# Altium footprint library ecg-go.PcbLib: 21 footprints (part 2 of 2)
Each footprint in its own frame and in the unit in brackets; x right, y up, seen from the top. Pads: shape width x height; smd on the part's side, far side on the other; paste and mask are expansions set on the pad; w line width, h text height; cw(c..) or ccw(c..) is an arc to the next point about the centre after c.
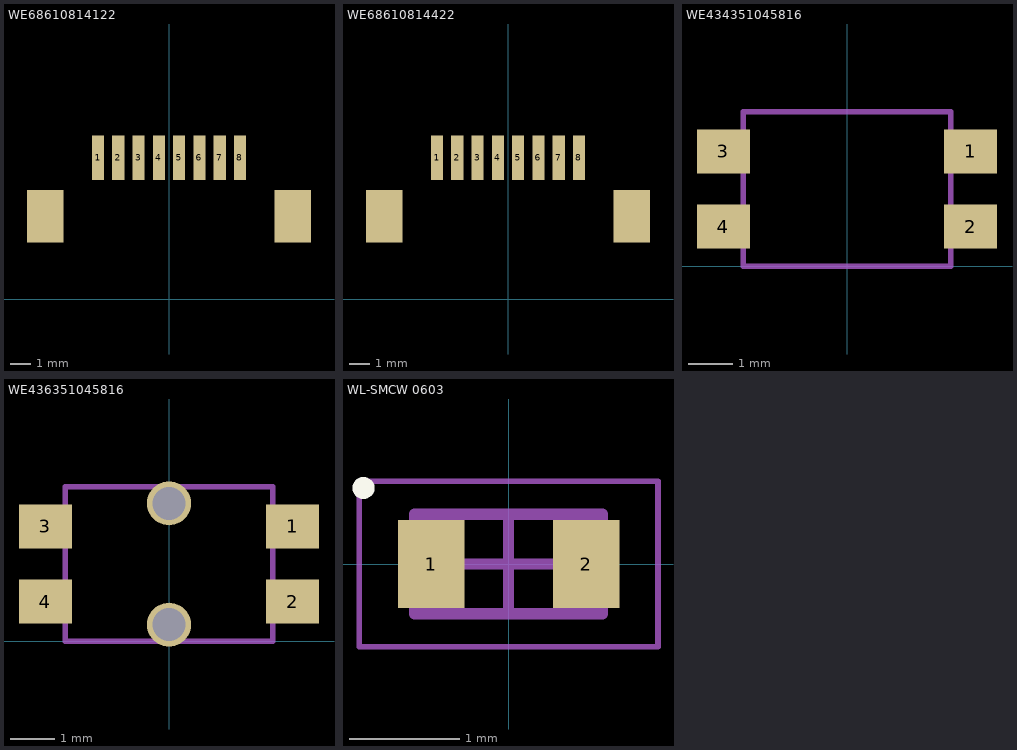
[diagram p1: the footprints below, top view; thin cyan lines are the x and y axes]

## WE68610814122 [mm] "Conn - FFC, 8 Pin, 1 mm Pitch, Bottom Contacts, SMD, Right Angle, Slide Lock"
height 3
pads (10):
  rect 0.6x2.2 smd paste-0.05 mask+0.05: 1(-3.5,7) 2(-2.5,7) 3(-1.5,7) 4(-0.5,7) 5(0.5,7) 6(1.5,7) 7(2.5,7) 8(3.5,7)
  rect 1.8x2.6 smd paste-0.05 mask+0.05: ""(-6.1,4.1) ""(6.1,4.1)
3D body "WE 68610814122-rev1.stp": height 3.01, standoff 0.01, extent -7.5,0 7.5,7.1

## WE68610814422 [mm] "Conn - FFC, 8 Pin, 1 mm Pitch, Bottom Contacts, SMD, Right Angle, Slide Lock"
height 3
pads (10):
  rect 0.6x2.2 smd paste-0.05 mask+0.05: 1(-3.5,7) 2(-2.5,7) 3(-1.5,7) 4(-0.5,7) 5(0.5,7) 6(1.5,7) 7(2.5,7) 8(3.5,7)
  rect 1.8x2.6 smd paste-0.05 mask+0.05: ""(-6.1,4.1) ""(6.1,4.1)
3D body "WE 68610814422-rev1.stp": height 3.01, standoff 0.01, extent -7.5,0 7.5,7.1

## WE434351045816 [mm] "Switch - Tactile, Off-Mom, SPST, Side-Actuated"
height 1.65
pads (4):
  rect 1.2x1 smd paste-0.05 mask+0.05: 1(2.8,2.6) 2(2.8,0.9) 3(-2.8,2.6) 4(-2.8,0.9)
Mechanical 15:
  lines w0.125: -2.35,0 -2.35,3.5 2.35,3.5 2.35,0 -2.35,0
3D body "WE 434351045816-rev1.stp": height 1.64, standoff -0.01, extent -3.2,-1 3.2,3.5

## WE436351045816 [mm] "Switch - Tactile, Off-Mom, SPST, Side-Actuated"
height 1.65
pads (6):
  rect 1.2x1 smd paste-0.05 mask+0.05: 1(2.8,2.6) 2(2.8,0.9) 3(-2.8,2.6) 4(-2.8,0.9)
  round 1 hole 0.75 paste-0.75 mask+0.05: ""(0,0.375) ""(0,3.125)
Mechanical 15:
  lines w0.125: -2.35,0 -2.35,3.5 2.35,3.5 2.35,0 -2.35,0
3D body "WE 436351045816-rev1.stp": height 1.64, standoff -0.51, extent -3.2,-1 3.2,3.5

## WL-SMCW 0603 [mm] "Chip Diode, 2-Leads, Body 1,60x0,80mm, IPC Medium Density"
height 0.8
pads (2):
  rect 0.6x0.8 smd paste-0.05 mask+0.05: 1(-0.7,0) 2(0.7,0)
Top Overlay:
  circle w0.1: c-1.312,0.687 r0.05
Mechanical 13:
  lines w0.1: -0.85,-0.45 0.85,-0.45 0.85,0.45 -0.85,0.45 -0.85,-0.45
Mechanical 15:
  lines w0.05: -1.35,-0.75 1.35,-0.75 1.35,0.75 -1.35,0.75 -1.35,-0.75
  lines w0.1: -0.45,0 0.45,0 ; 0,-0.45 0,0.45
3D body "WE WL-SMCW-0603-rev1.stp": height 0.7, standoff 0, extent -0.8,-0.4 0.8,0.4